# Altium footprint library PCB - LEADED - SOP - MICROCHIP SOIC-8 SN.PcbLib: 1 footprints
Each footprint in its own frame and in the unit in brackets; x right, y up, seen from the top. Pads: shape width x height; smd on the part's side, far side on the other; paste and mask are expansions set on the pad; w line width, h text height; cw(c..) or ccw(c..) is an arc to the next point about the centre after c.
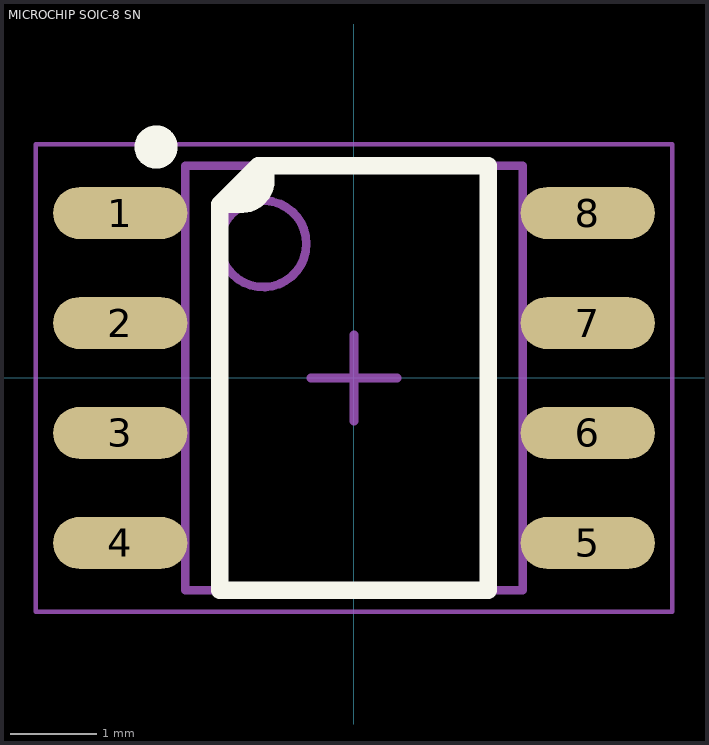
[diagram p0: the footprint, top view; thin cyan lines are the x and y axes]

## MICROCHIP SOIC-8 SN [mm] "SOIC, 8-Leads, Body 4.90x3.90mm, Pitch 1.27mm, IPC Medium Density"
height 1.75
pads (8):
  oval 1.55x0.6 smd: 1(-2.7,1.905) 2(-2.7,0.635) 3(-2.7,-0.635) 4(-2.7,-1.905) 5(2.7,-1.905) 6(2.7,-0.635) 7(2.7,0.635) 8(2.7,1.905)
Top Overlay:
  circle w0.25: c-2.286,2.667 r0.125
  region: -1.106,2.45 -1.016,2.36 -1.016,2.286 -1.296,2.006 -1.423,2.006
  lines w0.2: -1.55,2.006 -1.296,2.006 ccw(c-1.296,2.286) -1.016,2.286 -1.016,2.36 ccw(c-1.106,2.36) -1.106,2.45 ; -1.55,2.006 -1.55,-2.45 1.55,-2.45 1.55,2.45 -1.106,2.45 ; -1.55,2.006 -1.106,2.45
Mechanical 13:
  circle w0.1: c-1.05,1.55 r0.5
  lines w0.1: -1.95,-2.45 1.95,-2.45 1.95,2.45 -1.95,2.45 -1.95,-2.45
Mechanical 15:
  lines w0.05: -3.675,-2.7 3.675,-2.7 3.675,2.7 -3.675,2.7 -3.675,-2.7
Mechanical 2 (Mech9):
  lines w0.1: -0.5,0 0.5,0 ; 0,-0.5 0,0.5
3D body "MICROCHIP SOIC-8 SN.step": height 1.75, standoff 0, extent -3,-2.45 3,2.45